# Altium integrated library Diode.IntLib: 3 symbols
Pins are listed as number, name and electrical type; pins without a type are passive.

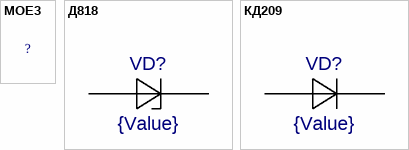
[diagram p0: symbols MOE3 to КД209]

## MOE3
designator ?  (value not drawn)
Value: *
footprint UNTITLED

## Д818
designator VD?  value {Value}  (hidden comment: Д818)
footprint DO-13
pins: 1 K, 2 A

## КД209
designator VD?  value {Value}  (hidden comment: КД209)
footprint DO-7
pins: 1 K, 2 A